# EAGLE library part MC14511BCPG (library ON Semiconductor_By_element14_Batch_1)
BCD-To-Seven Segment
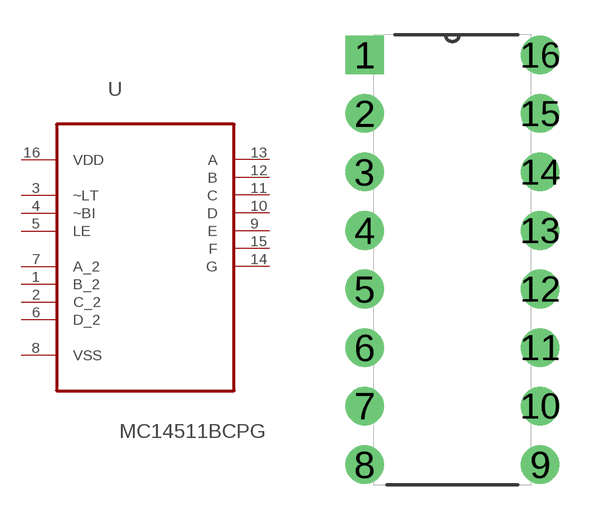
[diagram p277: symbol with the pads of DIP254P762X444-16; footprint DIP254P762X444-16]

Designator prefix U

## MC14511BCPG (MPN: MC14511BCPG; OC_FARNELL: 9665617; OC_NEWARK: 45J1104; P1I: o; PACKAGE: PDIP-16; SUPPLIER: On semiconductors)  [DIP254P762X444-16]
1  B_2  in
2  C_2  in
3  ~LT  in
4  ~BI  in
5  LE  in
6  D_2  in
7  A_2  in
8  VSS  pwr
9  E  out
10  D  out
11  C  out
12  B  out
13  A  out
14  G  out
15  F  out
16  VDD  pwr

## Footprint DIP254P762X444-16 (pad centres in mm)
drill 1.118 square: 1 -7.62,17.78
drill 1.118: 2 -7.62,15.24; 3 -7.62,12.7; 4 -7.62,10.16; 5 -7.62,7.62; 6 -7.62,5.08; 7 -7.62,2.54; 8 -7.62,0; 9 0,0; 10 0,2.54; 11 0,5.08; 12 0,7.62; 13 0,10.16; 14 0,12.7; 15 0,15.24; 16 0,17.78